# Altium schematic symbol library Schlib1.SchLib: 4 symbols
Pins are listed as number, name and electrical type; pins without a type are passive.

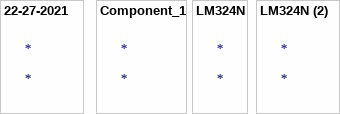
[diagram p0: symbols 22-27-2021 to LM324N (2)]

## 22-27-2021
designator *
KK 254 Wire-to-Board Header, Vertical, with Friction Lock, 2 Circuits, Tin (Sn) Plating; Manufacturer: Molex; Plating: 154ConductorMaterial; Current Rating: 4A; Number of Positions: 2; Gender: Male; Voltage Rating (DC): 250V; Voltage Rating: 500V; Pitch: 2.54mm; Supplier: Mouser; Supplier Part Number: 538-22-27-2021; Manufacturer Part Number: 22-27-2021; RoHS: Yes; Category: Headers and Wire Housings; Stock: 64795; Pricing: 1=0.28, 10=0.205, 50=0.205, 100=0.166, 500=0.141, 1000=0.12, 2500=0.11, 10000=0.102, 17100=0.101, 51300=0.094 (USD); Contact Plating: Tin; Contact Material: Tin; Housing Color: Natural; Material: Nylon; Housing Material: Nylon; Weight: 0.00769oz; Number of Rows: 1; Package Quantity: 24000; Contact Gender: Male; Packaging: Bulk; Termination: Through Hole; Series: 6410; Contact Type: -; Lead Free: Lead Free; Flammability Rating: UL94 V-0; Reach SVHC Compliant: 4187SVHC; RoHS Compliant: Yes

## Component_1
designator *

## LM324N
designator *
Operational Amplifier, Quad, 1 Mhz, 4, 0.5 V/ S, 1.5V To 16V, Dip, 14 Rohs Compliant: Yes; Manufacturer: Texas Instruments; Manufacturer Part Number: LM324N; Max Supply Voltage: 32V; Min Supply Voltage: 3V; Voltage Gain: 100dB; Slew Rate: 0.5V/µs; Gain Bandwidth Product: 1.2MHz; Input Bias Current: 45nA; Input Offset Voltage (Vos): 7mV; Operating Supply Current: 1.5mA; Output Current per Channel: 40mA; Common Mode Rejection Ratio: 80dB; Number of Channels: 4; Dual Supply Voltage: 9V; Supply Type: Single,Dual; Input Voltage Noise Density: 35nV/sqrt Hz; Supplier: Mouser; Supplier Part Number: 595-LM324N; RoHS: No; Category: Amplifiers - Op Amps, Buffer, Instrumentation; Stock: 57400; Pricing: 1=0.4, 10=0.33, 50=0.33, 100=0.26, 500=0.219, 1000=0.169, 2500=0.145, 10000=0.139, 25000=0.135, 50000=0.124 (USD); Case/Package: PDIP; Pins: 14; Weight: 0.032734oz; Min Operating Temperature: 0°C; Max Operating Temperature: 70°C; Package Quantity: 25; Packaging: Rail/Tube; Operating Supply Voltage: 16V; Min Dual Supply Voltage: 1.5V; Max Dual Supply Voltage: 16V; Series: LM324; Technology: BIPOLAR; Power Supply Rejection Ratio (PSRR): 100dB; Gain: 100dB; Length: 19.3mm; Width: 6.35mm; Height: 4.57mm; Lead Free: Lead Free; RoHS Compliant: No

## LM324N (2)
designator *
Operational Amplifier, Quad, 1 Mhz, 4, 0.5 V/ S, 1.5V To 16V, Dip, 14 Rohs Compliant: Yes; Manufacturer: Texas Instruments; Manufacturer Part Number: LM324N; Max Supply Voltage: 32V; Min Supply Voltage: 3V; Voltage Gain: 100dB; Slew Rate: 0.5V/µs; Gain Bandwidth Product: 1.2MHz; Input Bias Current: 45nA; Input Offset Voltage (Vos): 7mV; Operating Supply Current: 1.5mA; Output Current per Channel: 40mA; Common Mode Rejection Ratio: 80dB; Number of Channels: 4; Dual Supply Voltage: 9V; Supply Type: Single,Dual; Input Voltage Noise Density: 35nV/sqrt Hz; Supplier: Mouser; Supplier Part Number: 595-LM324N; RoHS: No; Category: Amplifiers - Op Amps, Buffer, Instrumentation; Stock: 57400; Pricing: 1=0.4, 10=0.33, 50=0.33, 100=0.26, 500=0.219, 1000=0.169, 2500=0.145, 10000=0.139, 25000=0.135, 50000=0.124 (USD); Case/Package: PDIP; Pins: 14; Weight: 0.032734oz; Min Operating Temperature: 0°C; Max Operating Temperature: 70°C; Package Quantity: 25; Packaging: Rail/Tube; Operating Supply Voltage: 16V; Min Dual Supply Voltage: 1.5V; Max Dual Supply Voltage: 16V; Series: LM324; Technology: BIPOLAR; Power Supply Rejection Ratio (PSRR): 100dB; Gain: 100dB; Length: 19.3mm; Width: 6.35mm; Height: 4.57mm; Lead Free: Lead Free; RoHS Compliant: No